# Altium footprint library Library.PcbLib: 1 footprints
Each footprint in its own frame and in the unit in brackets; x right, y up, seen from the top. Pads: shape width x height; smd on the part's side, far side on the other; paste and mask are expansions set on the pad; w line width, h text height; cw(c..) or ccw(c..) is an arc to the next point about the centre after c.
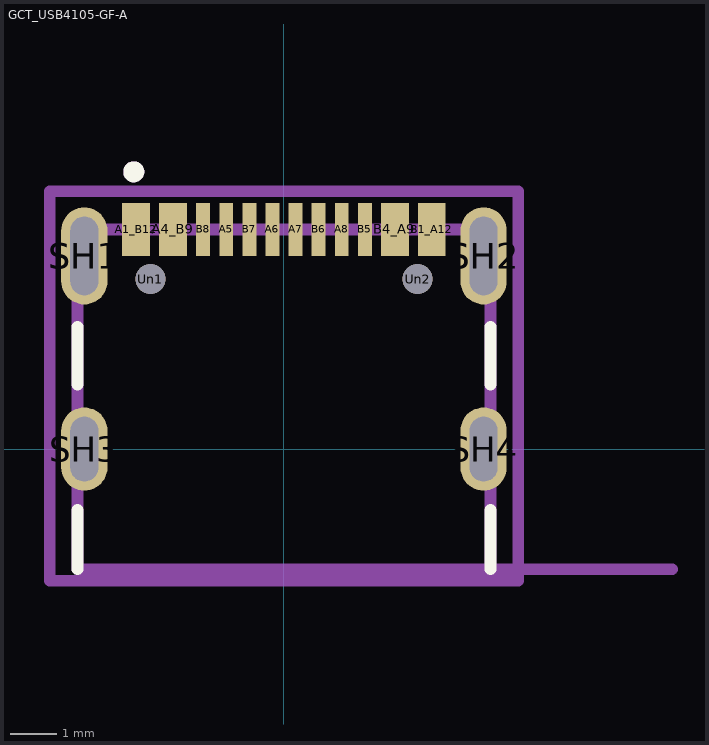
[diagram p0: the footprint, top view; thin cyan lines are the x and y axes]

## GCT_USB4105-GF-A [mm]
pads (18):
  rect 0.6x1.15 smd: A1_B12(-3.2,4.755) A4_B9(-2.4,4.755) B1_A12(3.2,4.755) B4_A9(2.4,4.755)
  rect 0.3x1.15 smd: A5(-1.25,4.755) A6(-0.25,4.755) A7(0.25,4.755) A8(1.25,4.755) B5(1.75,4.755) B6(0.75,4.755) B7(-0.75,4.755) B8(-1.75,4.755)
  rrect100% 1x2.1 hole 1.7 slot 0.6 at 0 deg: SH1(-4.32,4.18) SH2(4.32,4.18)
  rrect100% 1x1.8 hole 1.4 slot 0.6 at 0 deg: SH3(-4.32,0) SH4(4.32,0)
  round 0.65 hole 0.65: Un1(-2.89,3.68) Un2(2.89,3.68)
F.SilkS:
  circle w0.254: c-3.25,6 r0.1
  lines w0.254: -4.47,-2.6 -4.47,-1.32 ; -4.47,1.4 -4.47,2.65 ; 4.47,-2.6 4.47,-1.32 ; 4.47,1.4 4.47,2.65
F.Mask:
  region: -2.85,4.13 -3.55,4.13 -3.55,5.38 -2.85,5.38
  region: -2.05,4.13 -2.75,4.13 -2.75,5.38 -2.05,5.38
  region: -1.55,4.13 -1.95,4.13 -1.95,5.38 -1.55,5.38
  region: -1.05,4.13 -1.45,4.13 -1.45,5.38 -1.05,5.38
  region: -0.55,4.13 -0.95,4.13 -0.95,5.38 -0.55,5.38
  region: -0.05,4.13 -0.45,4.13 -0.45,5.38 -0.05,5.38
  region: 0.45,4.13 0.05,4.13 0.05,5.38 0.45,5.38
  region: 0.95,4.13 0.55,4.13 0.55,5.38 0.95,5.38
  region: 1.45,4.13 1.05,4.13 1.05,5.38 1.45,5.38
  region: 1.95,4.13 1.55,4.13 1.55,5.38 1.95,5.38
  region: 2.75,4.13 2.05,4.13 2.05,5.38 2.75,5.38
  region: 3.55,4.13 2.85,4.13 2.85,5.38 3.55,5.38
F.CrtYd:
  lines w0.254: -5.07,-2.85 -5.07,5.58 5.07,5.58 5.07,-2.85 -5.07,-2.85
F.Fab:
  circle w0.254: c-3.25,6 r0.1
  lines w0.254: 8.4,-2.6 4.47,-2.6 ; 4.47,-2.6 4.47,4.75 -4.47,4.75 -4.47,-2.6 4.47,-2.6
  text "PCB EDGE" at 5.021,-2.591 h0.32